# Altium schematic symbol library ADF4007.SchLib: 1 symbol
Pins are listed as number, name and electrical type; pins without a type are passive.

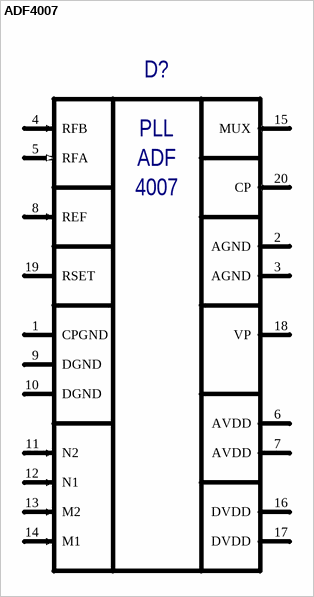
[diagram p0: symbol ADF4007]

## ADF4007
designator D?  (value not drawn)
Manufacturer: Analog Devices; Type: Микросхема; BCPId: *; Name: *; ManufacturerPartNumber: ADF4007
footprint QFN50P400X400X100-20N (QFN, 20-Leads, Body 4,0x4,0mm (max), Pitch 0,50mm, IPC Medium Density)
pins: 1 CPGND (power) "Charge Pump Ground", 2 AGND (power) "Analog Ground", 3 AGND (power) "Analog Ground", 4 RFB (in) "Complementary Input to the RF Input", 5 RFA (in) "Complementary Input to the N counter", 6 AVDD (power) "Analog Power Supply", 7 AVDD (power) "Analog Power Supply", 8 REF (in) "Reference Input", 9 DGND (power) "Digital Ground", 10 DGND (power) "Digital Ground", 11 N2 (in) "Chip Enable", 12 N1 (in) "Serial Clock Input", 13 M2 (in) "Serial Data Input", 14 M1 (in) "Load Enable", 15 MUX (out) "Multiplexer output", 16 DVDD (power) "Digital Power Supply", 17 DVDD (power) "Digital Power Supply", 18 VP (power) "Charge Pump Power Supply", 19 RSET (power) "Sets the maximum charge pump output current", 20 CP (out) "Charge Pump Output", EPAD (power) hidden to GND "The user should connect thermal pad to AGND"
text: PLL; ADF; 4007